# EAGLE library part XVB93GPHPN (library pot)
9 MM DUAL POTENTIOMETER Nobel USA, Inc.
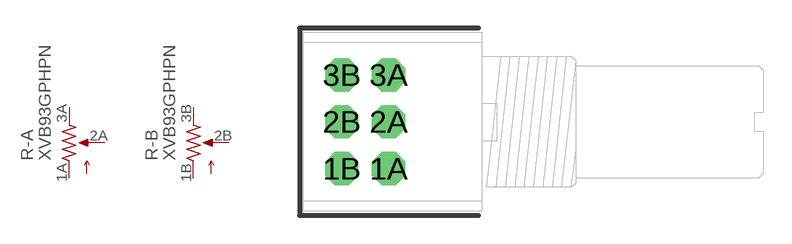
[diagram p11: symbol with the pads of XVB93GPHPN; footprint XVB93GPHPN]

Designator prefix R; gates -A=POT_US- -B=POT_US-

## XVB93GPHPN  [XVB93GPHPN]
1A  -A:1  pas
1B  -B:1  pas
2A  -A:2  pas
2B  -B:2  pas
3A  -A:3  pas
3B  -B:3  pas

## Footprint XVB93GPHPN (pad centres in mm)
9 MM POTENTIOMETER
drill 1.016 pad 1.778 octagon: 1A -5,-2.5; 1B -7.5,-2.5; 2A -5,0; 2B -7.5,0; 3A -5,2.5; 3B -7.5,2.5